# EAGLE library part ADS1015 (library commons)
TI ADS1015 NOT TESTED !! ADS101x Ultra-Small, Low-Power, I 2 C-Compatible, 3.3-kSPS, 12-Bit ADCs With Internal Reference, Oscillator, and Programmable Comparator
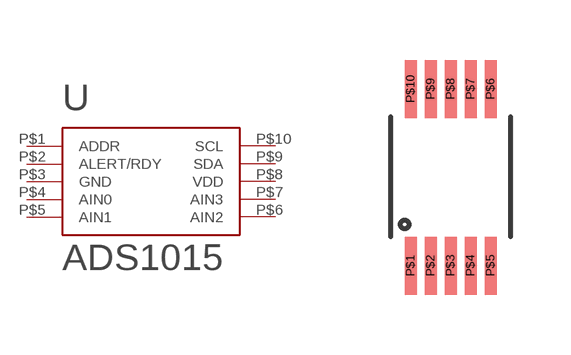
[diagram p0: symbol with the pads of PDSO-G10; footprint PDSO-G10]

Designator prefix U

## ADS1015  [PDSO-G10]
P$1  ADDR
P$2  ALERT/RDY
P$3  GND
P$4  AIN0
P$5  AIN1
P$6  AIN2
P$7  AIN3
P$8  VDD
P$9  SDA
P$10  SCL

## Footprint PDSO-G10 (pad centres in mm)
smd 0.3 x 1.45: P$1 0.15,-0.727; P$2 0.65,-0.727; P$3 1.15,-0.727; P$4 1.65,-0.727; P$5 2.15,-0.727; P$6 2.15,3.698; P$7 1.65,3.698; P$8 1.15,3.698; P$9 0.65,3.698; P$10 0.15,3.698